# Altium footprint library CS5032.PcbLib: 1 footprints
Each footprint in its own frame and in the unit in brackets; x right, y up, seen from the top. Pads: shape width x height; smd on the part's side, far side on the other; paste and mask are expansions set on the pad; w line width, h text height; cw(c..) or ccw(c..) is an arc to the next point about the centre after c.
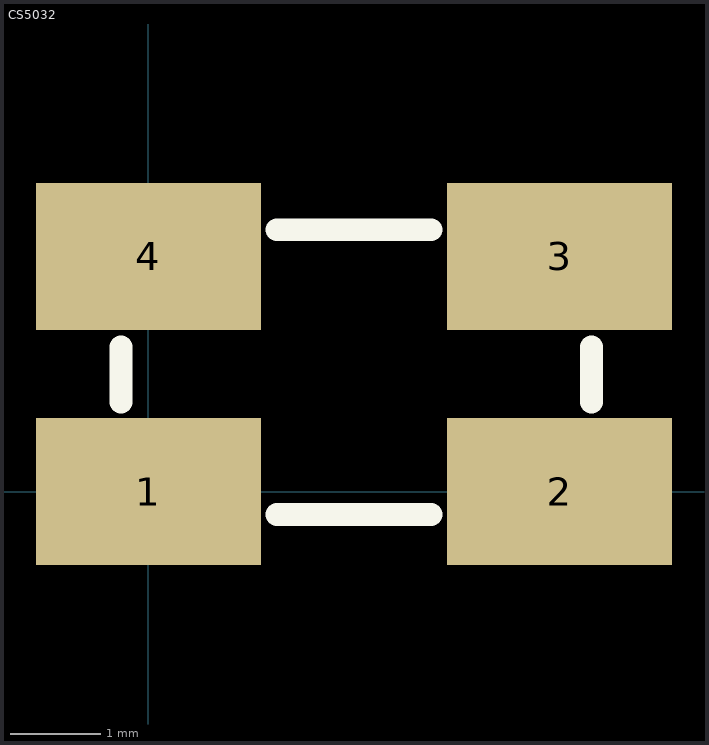
[diagram p0: the footprint, top view; thin cyan lines are the x and y axes]

## CS5032 [mil]
pads (4):
  rect 98x64 smd: 1(0,0) 2(179.13,0) 3(179.13,102.36) 4(0,102.36)
Top Overlay:
  lines w10: -12,39 -12,63 ; 56,-10 123,-10 ; 56,114 123,114 ; 193,39 193,63
  text "." at -15,-51 h60
3D body: height 39.37, standoff 0, extent -8,-11 188.85,114.98